# EAGLE library part DS02C-254-1L-04BE (library ruark2)
Dip Switch SPST 4 Position Through Hole, Right Angle Piano Actuator 25mA 24VDC
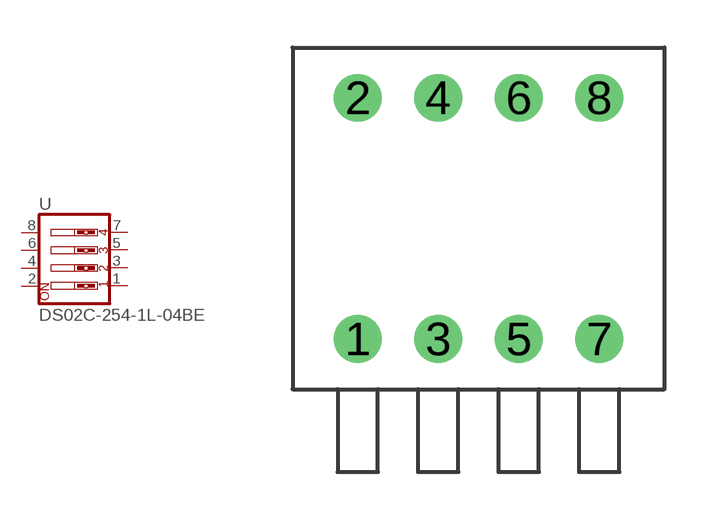
[diagram p195: symbol with the pads of 4DIP_RA; footprint 4DIP_RA]

Designator prefix -

## DS02C-254-1L-04BE (PARTNO: 2223-DS02C-254-1L-04BE-ND)  [4DIP_RA]
1  1  pas
2  2  pas
3  3  pas
4  4  pas
5  5  pas
6  6  pas
7  7  pas
8  8  pas

## Footprint 4DIP_RA (pad centres in mm)
drill 1: 1 -3.81,-3.81; 2 -3.81,3.81; 3 -1.27,-3.81; 4 -1.27,3.81; 5 1.27,-3.81; 6 1.27,3.81; 7 3.81,-3.81; 8 3.81,3.81